# Altium footprint library sod_123_368x160x135.PcbLib: 1 footprints
Each footprint in its own frame and in the unit in brackets; x right, y up, seen from the top. Pads: shape width x height; smd on the part's side, far side on the other; paste and mask are expansions set on the pad; w line width, h text height; cw(c..) or ccw(c..) is an arc to the next point about the centre after c.
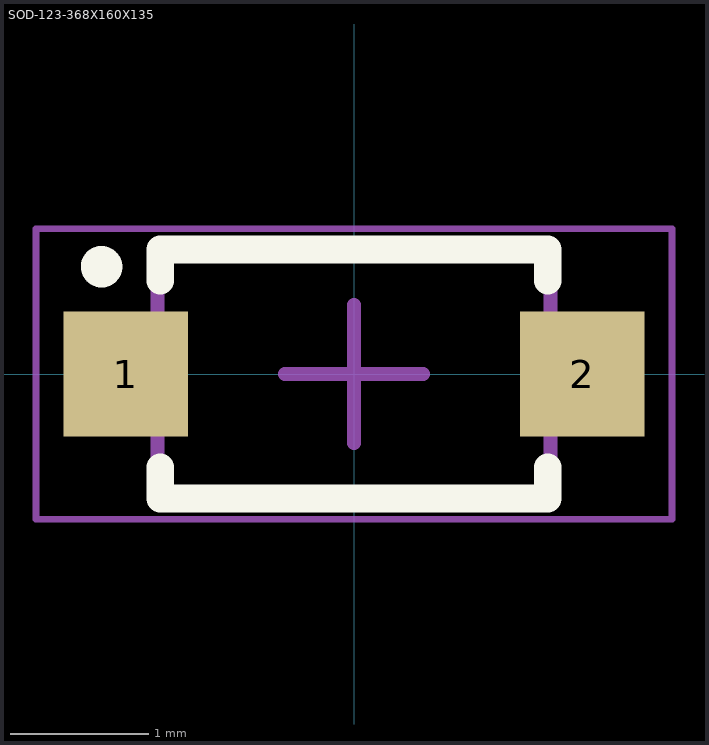
[diagram p0: the footprint, top view; thin cyan lines are the x and y axes]

## SOD-123-368X160X135 [mm] "SOD, 2-Leads, Body 3,68x1,60mm, IPC Medium Density"
height 1.35
pads (2):
  rect 0.9x0.9 smd: 1(-1.65,0) 2(1.65,0)
Top Overlay:
  lines w0.2: -1.775,0.777 ccw(c-1.825,0.775) -1.775,0.775 ; -1.4,-0.675 -1.4,-0.9 1.4,-0.9 1.4,-0.675 ; -1.4,0.675 -1.4,0.9 1.4,0.9 1.4,0.675
Top Comment:
  text ".Comment" at 1.016,1.397 h1.2
Top Designator:
  text ".Designator" at -0.127,1.397 h1.2
Top Component Outline:
  lines w0.1: -1.42,-0.9 -1.42,0.9 1.42,0.9 1.42,-0.9 -1.42,-0.9
Top Courtyard (Mech15):
  lines w0.05: -2.3,-1.05 -2.3,1.05 2.3,1.05 2.3,-1.05 -2.3,-1.05
  lines w0.1: -0.5,0 0.5,0 ; 0,-0.5 0,0.5
3D body "SOD-123.STEP": height 1.5, standoff -0.03, extent -1.825,-0.775 1.825,0.775